# Altium footprint library Footprints.PcbLib: 4 footprints
Each footprint in its own frame and in the unit in brackets; x right, y up, seen from the top. Pads: shape width x height; smd on the part's side, far side on the other; paste and mask are expansions set on the pad; w line width, h text height; cw(c..) or ccw(c..) is an arc to the next point about the centre after c.
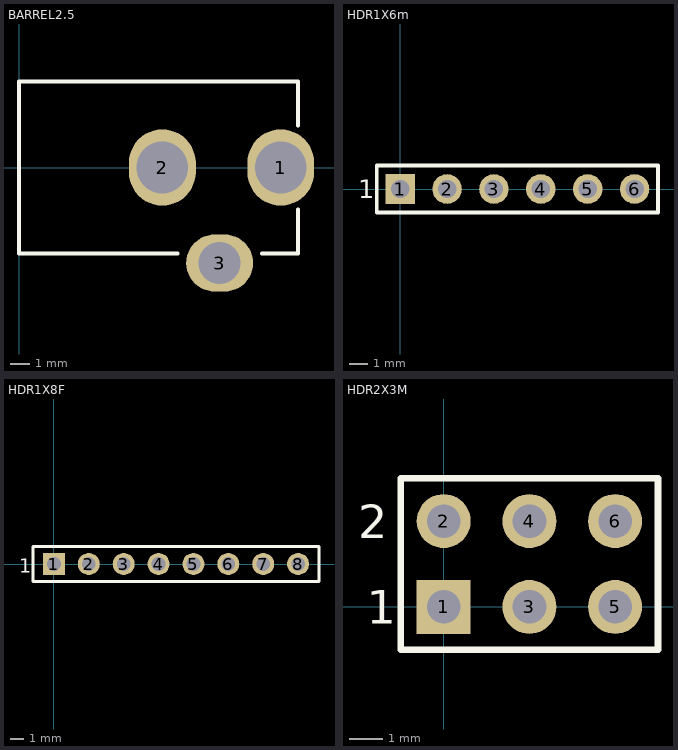
[diagram p0: the footprints below, top view; thin cyan lines are the x and y axes]

## BARREL2.5 [mm] "DC Power Jack, 2.5mm, KLD Series, PCB Mount"
height 11
pads (3):
  oval 3.5x4 hole 2.7: 1(13.7,0) 2(7.5,0)
  oval 3.5x3 hole 2.2: 3(10.5,-5)
Top Overlay:
  lines w0.2: 8.3,-4.5 0,-4.5 0,4.5 14.6,4.5 14.6,2.2 ; 12.7,-4.5 14.6,-4.5 14.6,-2.2
3D body: height 5, standoff -0.05, extent 2.223,-4.445 14.54,4.5
3D body: height 10.5, standoff 1.5, extent 2.54,-4.445 14.54,4.555
3D body: height 11, standoff -0.05, extent 0,-4.445 3.175,4.555

## HDR1X6m [mm] "Connector; Header; 6 Position"
pads (6):
  rect 1.6x1.6 hole 1: 1(0,0)
  round 1.6 hole 1: 2(2.54,0) 3(5.08,0) 4(7.62,0) 5(10.16,0) 6(12.7,0)
Top Overlay:
  lines w0.2: -1.27,-1.27 13.97,-1.27 13.97,1.27 -1.27,1.27 -1.27,-1.27
  text "1" at -2.286,-0.508 h1
3D body "User Library-1x6 TH Pitch 2_54mm.step": height 9.55, standoff -3.15, extent -1.27,-1.27 13.97,1.27

## HDR1X8F [mm] "Connector; Header; 8 Position"
pads (8):
  rect 1.6x1.6 hole 1: 1(0,0)
  round 1.6 hole 1: 2(2.54,0) 3(5.08,0) 4(7.62,0) 5(10.16,0) 6(12.7,0) 7(15.24,0) 8(17.78,0)
Top Overlay:
  lines w0.2: -1.52,-1.27 19.3,-1.27 19.3,1.27 -1.52,1.27 -1.52,-1.27
  text "1" at -2.54,-0.635 h1
3D body "User Library-Header _Fem_1X8.step": height 8.55, standoff -3.15, extent -1.52,-1.27 19.3,1.27

## HDR2X3M [mm] "Connector; Header; 3x2 Position"
pads (6):
  rect 1.6x1.6 hole 1: 1(0,0)
  round 1.6 hole 1: 2(0,2.54) 3(2.54,0) 4(2.54,2.54) 5(5.08,0) 6(5.08,2.54)
Top Overlay:
  lines w0.2: 1.482,-1.27 6.35,-1.27 ; 6.35,-1.27 -1.27,-1.27 -1.27,3.81 6.35,3.81 6.35,-1.27
  text "1" at -2.286,-0.508 h1
  text "2" at -2.54,2.032 h1
3D body "User Library-2x3 Header.step": height 8.5, standoff -3, extent -1.27,-1.27 6.35,3.77